# EAGLE library part PINHD-2X9 (library pinhead_MDB)
PIN HEADER
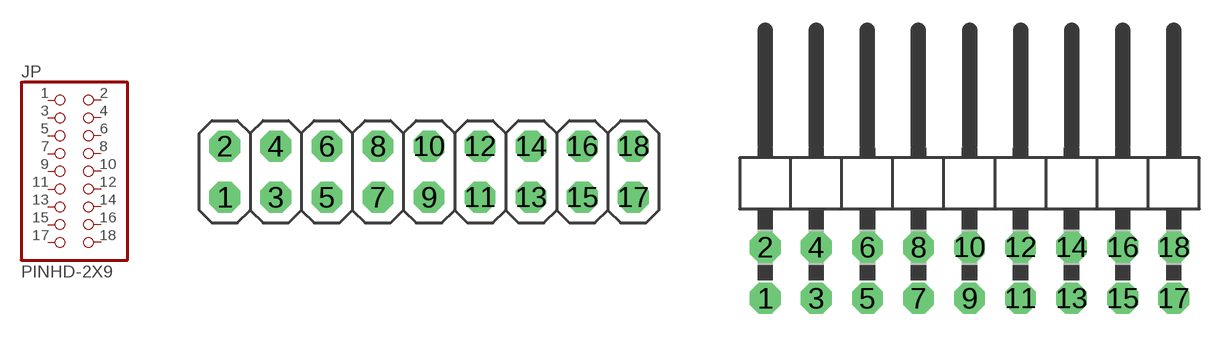
[diagram p35: symbol with the pads of 2X09; footprints 2X09, 2X09/90]

Designator prefix JP

## PINHD-2X9_2.54  [2X09]
1  1  pas
2  2  pas
3  3  pas
4  4  pas
5  5  pas
6  6  pas
7  7  pas
8  8  pas
9  9  pas
10  10  pas
11  11  pas
12  12  pas
13  13  pas
14  14  pas
15  15  pas
16  16  pas
17  17  pas
18  18  pas

## PINHD-2X9_2.54-90°  [2X09/90]
Pads as for 2X09

## PINHD-2X9_2.00  [2X09M]
Pads as for 2X09

## PINHD-2X9_2.54-SMD  [2X09SMD]
Pads as for 2X09

## PINHD-2X9_MICROMATCH  [MICROMATCH-18]
Pads as for 2X09

## PINHD-2X9_2.54-SMD-90°  [2X09SMD/90]
Pads as for 2X09

## Footprint 2X09 (pad centres in mm)
PIN HEADER - 2.54
drill 1.016 octagon: 1 -10.16,-1.27; 2 -10.16,1.27; 3 -7.62,-1.27; 4 -7.62,1.27; 5 -5.08,-1.27; 6 -5.08,1.27; 7 -2.54,-1.27; 8 -2.54,1.27; 9 0,-1.27; 10 0,1.27; 11 2.54,-1.27; 12 2.54,1.27; 13 5.08,-1.27; 14 5.08,1.27; 15 7.62,-1.27; 16 7.62,1.27; 17 10.16,-1.27; 18 10.16,1.27

## Footprint 2X09/90 (pad centres in mm)
PIN HEADER - 2.54 90°
drill 1.016 octagon: 1 -10.16,-6.35; 2 -10.16,-3.81; 3 -7.62,-6.35; 4 -7.62,-3.81; 5 -5.08,-6.35; 6 -5.08,-3.81; 7 -2.54,-6.35; 8 -2.54,-3.81; 9 0,-6.35; 10 0,-3.81; 11 2.54,-6.35; 12 2.54,-3.81; 13 5.08,-6.35; 14 5.08,-3.81; 15 7.62,-6.35; 16 7.62,-3.81; 17 10.16,-6.35; 18 10.16,-3.81

## Footprint 2X09M (pad centres in mm)
PIN HEADER - 2
drill 0.914 square: 1 -8,-1
drill 0.914: 2 -8,1; 3 -6,-1; 4 -6,1; 5 -4,-1; 6 -4,1; 7 -2,-1; 8 -2,1; 9 0,-1; 10 0,1; 11 2,-1; 12 2,1; 13 4,-1; 14 4,1; 15 6,-1; 16 6,1; 17 8,-1; 18 8,1

## Footprint 2X09SMD (pad centres in mm)
PIN HEADER - 2.54 SMD
smd 1.016 x 3.302: 1 -1.27,-3.81; 2 -1.27,1.27; 3 1.27,-3.81; 4 1.27,1.27; 5 3.81,-3.81; 6 3.81,1.27; 7 6.35,-3.81; 8 6.35,1.27; 9 8.89,-3.81; 10 8.89,1.27; 11 11.43,-3.81; 12 11.43,1.27; 13 13.97,-3.81; 14 13.97,1.27; 15 16.51,-3.81; 16 16.51,1.27; 17 19.05,-3.81; 18 19.05,1.27

## Footprint MICROMATCH-18 (pad centres in mm)
MicroMaTch 18 8-215464-8 / 1-215464-8 Drawing Number C-215464 DDEController.pdf
drill 0.813: 1 10.795,1.27; 2 9.525,-1.27; 3 8.255,1.27; 4 6.985,-1.27; 5 5.715,1.27; 6 4.445,-1.27; 7 3.175,1.27; 8 1.905,-1.27; 9 0.635,1.27; 10 -0.635,-1.27; 11 -1.905,1.27; 12 -3.175,-1.27; 13 -4.445,1.27; 14 -5.715,-1.27; 15 -6.985,1.27; 16 -8.255,-1.27; 17 -9.525,1.27; 18 -10.795,-1.27

## Footprint 2X09SMD/90 (pad centres in mm)
PIN HEADER - 2.54 90°
smd 1.016 x 1.778: 1 -1.27,-8.89; 2 -1.27,-5.08; 3 1.27,-8.89; 4 1.27,-5.08; 5 3.81,-8.89; 6 3.81,-5.08; 7 6.35,-8.89; 8 6.35,-5.08; 9 8.89,-8.89; 10 8.89,-5.08; 11 11.43,-8.89; 12 11.43,-5.08; 13 13.97,-8.89; 14 13.97,-5.08; 15 16.51,-8.89; 16 16.51,-5.08; 17 19.05,-8.89; 18 19.05,-5.08